# Altium schematic symbol library XTAL_4P_B.SchLib: 1 symbol
Pins are listed as number, name and electrical type; pins without a type are passive.

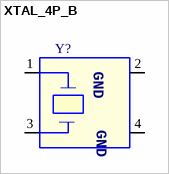
[diagram p0: symbol XTAL_4P_B]

## XTAL_4P_B
designator Y?
XTAL 16MHz 20ppm 8pF SMT
pins: 1, 2 (power), 3, 4 (power)
text: GND